# Altium schematic symbol library Headers.SCHLIB: 8 symbols
Pins are listed as number, name and electrical type; pins without a type are passive.

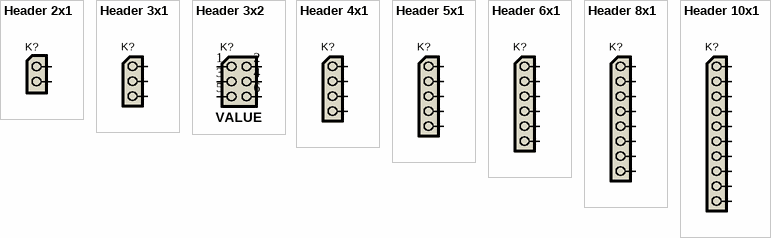
[diagram p0: symbols Header 2x1 to Header 10x1]

## Header 2x1
designator K?, comment General symbol for a header  (value not drawn)
pins: 1, 2

## Header 3x1
designator K?, comment General symbol for a header  (value not drawn)
pins: 1, 2, 3

## Header 3x2
designator K?, comment VALUE
General symbol for a header; VALUE: VALUE
pins: 1, 2, 3, 4, 5, 6

## Header 4x1
designator K?, comment General symbol for a header  (value not drawn)
pins: 1, 2, 3, 4

## Header 5x1
designator K?, comment General symbol for a header  (value not drawn)
pins: 1, 2, 3, 4, 5

## Header 6x1
designator K?, comment General symbol for a header  (value not drawn)
pins: 1, 2, 3, 4, 5, 6

## Header 8x1
designator K?, comment General symbol for a header  (value not drawn)
pins: 1, 2, 3, 4, 5, 6, 7, 8

## Header 10x1
designator K?, comment General symbol for a header  (value not drawn)
pins: 1, 2, 3, 4, 5, 6, 7, 8, 9, 10